# Altium schematic symbol library PESD2CAN.Schlib: 1 symbol
Pins are listed as number, name and electrical type; pins without a type are passive.

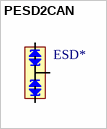
[diagram p0: symbol PESD2CAN]

## PESD2CAN
designator ESD*  (value not drawn)
CAN bus ESD protection diode; Назначение: Защитная диодная сборка CAN-шины от ЭСР; Наименование: PESD2CAN
footprint SO-G3/C2.5
pins: 1 C1 "Cathod 1", 2 C2, 3 CC "Common Cathod"